# Altium schematic symbol library C.Schlib: 1 symbol
Pins are listed as number, name and electrical type; pins without a type are passive.

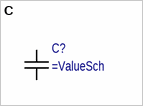
[diagram p0: symbol C]

## C
designator C?
Конденсатор неполярный
pins: 1, 2
1 alternate drawing of the same symbol